# Altium footprint library Relay.PcbLib: 1 footprints
Each footprint in its own frame and in the unit in brackets; x right, y up, seen from the top. Pads: shape width x height; smd on the part's side, far side on the other; paste and mask are expansions set on the pad; w line width, h text height; cw(c..) or ccw(c..) is an arc to the next point about the centre after c.
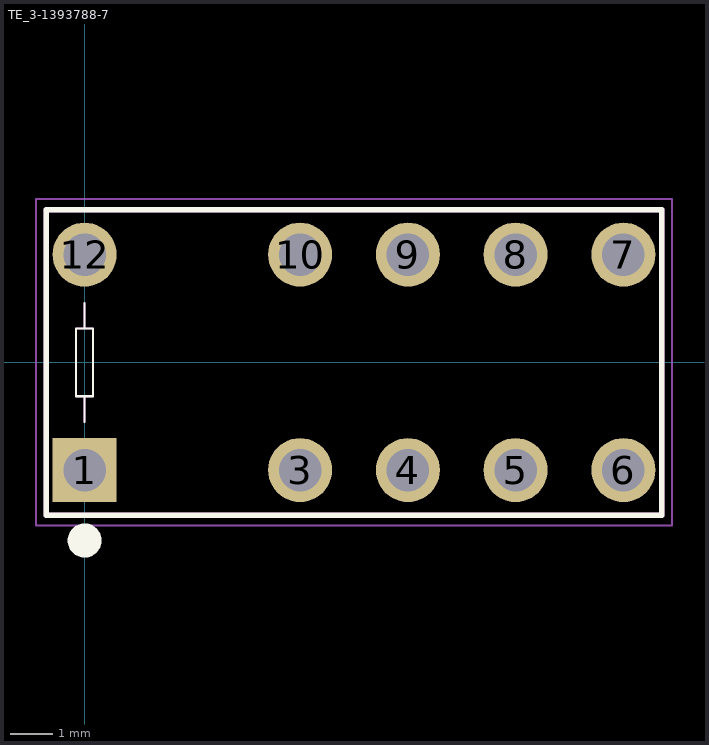
[diagram p0: the footprint, top view; thin cyan lines are the x and y axes]

## TE_3-1393788-7 [mm]
pads (10):
  rect 1.508x1.508 hole 1: 1(0,-2.54)
  round 1.508 hole 1: 3(5.08,-2.54) 4(7.62,-2.54) 5(10.16,-2.54) 6(12.7,-2.54) 7(12.7,2.54) 8(10.16,2.54) 9(7.62,2.54) 10(5.08,2.54) 12(0,2.54)
Top Overlay:
  circle w0.4: c0,-4.2 r0.2
  lines w0.05: 0,-1.4 0,-0.8 ; 0,0.8 0,1.4 ; 0,-0.8 0.2,-0.8 0.2,0.8 -0.2,0.8 -0.2,-0.8 0,-0.8
  lines w0.127: -0.9,-3.6 -0.9,3.6 13.6,3.6 13.6,-3.6 -0.9,-3.6
Mechanical 4:
  lines w0.05: -0.2,-0.8 0,-0.8 ; -0.2,-0.8 -0.2,0.8 ; -0.2,-0.8 0,-0.8 ; -0.2,-0.8 -0.2,0.8 ; -0.2,0.8 0.2,0.8 ; -0.2,0.8 0.2,0.8 ; 0,-0.8 0.2,-0.8 ; 0,-0.8 0,-1.4 0,-0.8 ; 0,-0.8 0.2,-0.8 ; 0.2,-0.8 0.2,0.8 ; 0.2,-0.8 0.2,0.8 ; 0,0.8 0,1.4 0,0.8
  lines w0.127: -0.9,-3.6 -0.9,3.6 ; -0.9,-3.6 13.6,-3.6 ; -0.9,-3.6 -0.9,3.6 ; -0.9,-3.6 13.6,-3.6 ; -0.9,3.6 13.6,3.6 ; -0.9,3.6 13.6,3.6 ; 13.6,-3.6 13.6,3.6 ; 13.6,-3.6 13.6,3.6
Mechanical 16:
  lines w0.05: -1.15,-3.85 13.85,-3.85 13.85,3.85 -1.15,3.85 -1.15,-3.85